# EAGLE library part HDJD-S822-QR999 (library SparkFun-paranoidstudio)
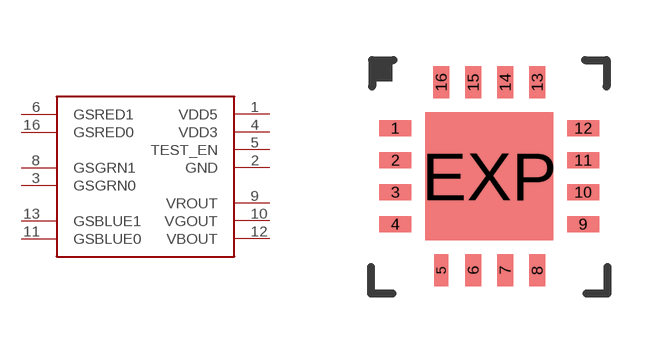
[diagram p372: symbol with the pads of QFN-16; footprint QFN-16]

Designator prefix -

## HDJD-S822-QR999  [QFN-16]
1  VDD5
2  GND
3  GSGRN0
4  VDD3
5  TEST_EN
6  GSRED1
8  GSGRN1
9  VROUT
10  VGOUT
11  GSBLUE0
12  VBOUT
13  GSBLUE1
16  GSRED0

## Footprint QFN-16 (pad centres in mm)
smd 0.8 x 0.4: 1 -2.35,1.2; 2 -2.35,0.4; 3 -2.35,-0.4; 4 -2.35,-1.2; 9 2.35,-1.2; 10 2.35,-0.4; 11 2.35,0.4; 12 2.35,1.2
smd 0.35 x 0.8: 5 -1.2,-2.35
smd 0.4 x 0.8: 6 -0.4,-2.35; 7 0.4,-2.35; 8 1.2,-2.35; 13 1.2,2.35; 14 0.4,2.35; 15 -0.4,2.35; 16 -1.2,2.35
smd 3.19 x 3.19: EXP 0,0